# EAGLE library part 5555165-1 (library myLib)
CONN MOD JACK R/A 6P6C
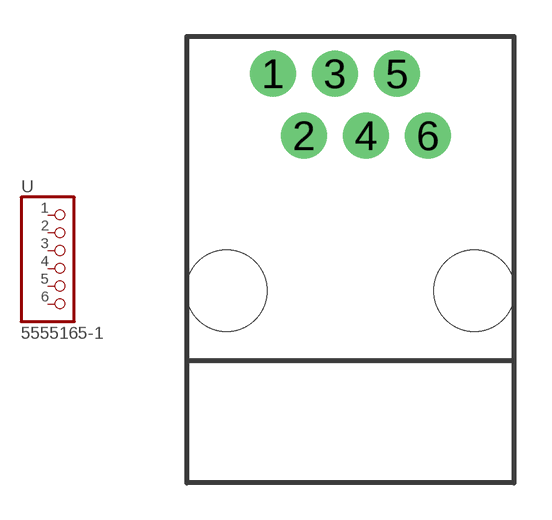
[diagram p20: symbol with the pads of R/A_6P6C; footprint R/A_6P6C]

Designator prefix -

## 5555165-1  [R/A_6P6C]
1  1  pas
2  2  pas
3  3  pas
4  4  pas
5  5  pas
6  6  pas

## Footprint R/A_6P6C (pad centres in mm)
CONN MOD JACK R/A 6P6C
drill 1.016 pad 1.88: 1 -3.175,7.62; 2 -1.905,5.08; 3 -0.635,7.62; 4 0.635,5.08; 5 1.905,7.62; 6 3.175,5.08
hole 3.32 at -5.08,-1.27
hole 3.32 at 5.08,-1.27